# Altium schematic symbol library Test Point - 5019.Schlib: 1 symbol
Pins are listed as number, name and electrical type; pins without a type are passive.

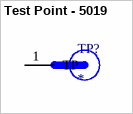
[diagram p0: symbol Test Point - 5019]

## Test Point - 5019
designator TP?
PC Test Point, Miniature Phosphor Bronze, Silver Plating Surface Mount Mounting Type; MP: 5019; MF: Keystone Electronics; Value: *; Package: 2010 Keystone
footprint TP380X203
pins: 1 TP